# Altium schematic symbol library Header 2X12.Schlib: 1 symbol
Pins are listed as number, name and electrical type; pins without a type are passive.

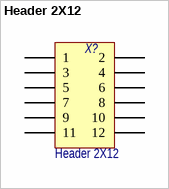
[diagram p0: symbol Header 2X12]

## Header 2X12
designator X?
Header, 12-Pin, Dual row; Потребление, Вт: 0,0; Назначение: Header, 12-Pin, Dual row; Наименование: Header 2X12
footprint PLD2-12
footprint PLD2-12R
footprint SD87340-12
footprint PBD-12
footprint SMD 2mm -12
pins: 1, 2, 3, 4, 5, 6, 7, 8, 9, 10, 11, 12